# Altium schematic symbol library Gravix-RES.SchLib: 1 symbol
Pins are listed as number, name and electrical type; pins without a type are passive.

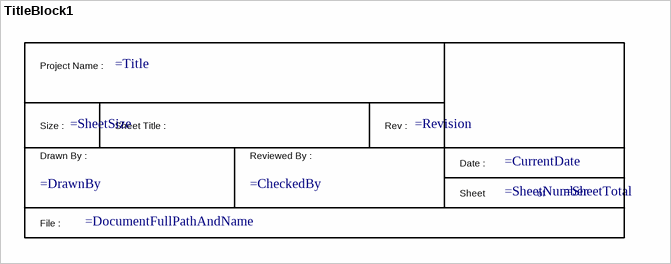
[diagram p0: symbol TitleBlock1]

## TitleBlock1
designator *  (value not drawn)  (graphical)
text: Project Name :; Size :; Sheet Title :; Rev :; Drawn By :; Reviewed By :; Date :; Sheet; of; File :